# Altium footprint library Crystal.PcbLib: 185 footprints (part 5 of 12)
Each footprint in its own frame and in the unit in brackets; x right, y up, seen from the top. Pads: shape width x height; smd on the part's side, far side on the other; paste and mask are expansions set on the pad; w line width, h text height; cw(c..) or ccw(c..) is an arc to the next point about the centre after c.
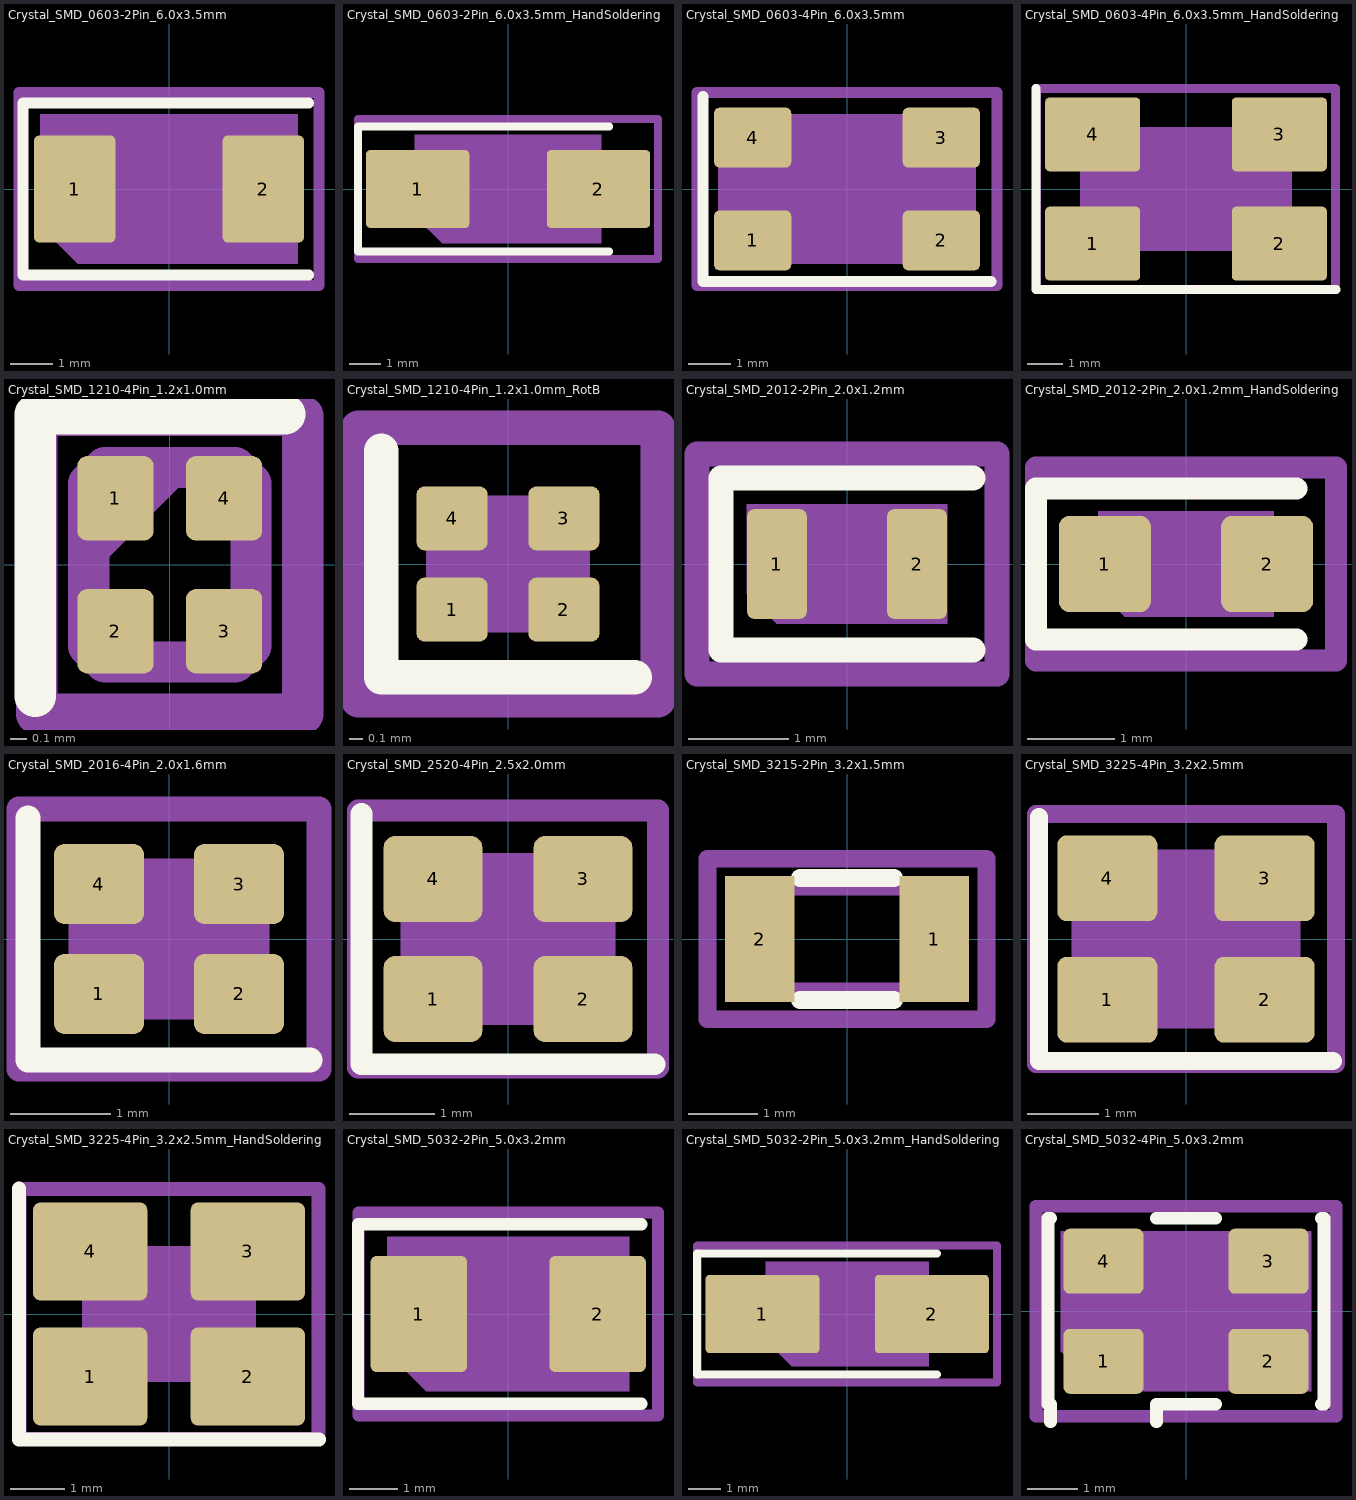
[diagram p4: the footprints below, top view; thin cyan lines are the x and y axes]

## Crystal_SMD_0603-2Pin_6.0x3.5mm [mm]
pads (2):
  rrect13% 1.9x2.5 smd: 1(-2.2,0) 2(2.2,0)
F.SilkS:
  lines w0.254: 3.26,-2.01 -3.41,-2.01 -3.41,2.01 3.26,2.01
Top Assembly:
  region: 3,-1.75 -2.125,-1.75 -3,-0.875 -3,1.75 3,1.75
  text "'.Designator'" at -4.047,-0.84 h1
Top Courtyard:
  lines w0.254: -3.5,-2.25 3.5,-2.25 3.5,2.25 -3.5,2.25 -3.5,-2.25
Top Designator:
  text ".Designator" at -7.768,-0.508 h1.52
Top Glue Points (Mech27):
  circle w0.254: c0,0 r0.4

## Crystal_SMD_0603-2Pin_6.0x3.5mm_HandSoldering [mm]
pads (2):
  rrect10% 3.325x2.5 smd: 1(-2.913,0) 2(2.913,0)
F.SilkS:
  lines w0.254: 3.26,-2.01 -4.835,-2.01 -4.835,2.01 3.26,2.01
Top Assembly:
  region: 3,-1.75 -2.125,-1.75 -3,-0.875 -3,1.75 3,1.75
  text "'.Designator'" at -4.047,-0.84 h1
Top Courtyard:
  lines w0.254: -4.83,-2.25 4.83,-2.25 4.83,2.25 -4.83,2.25 -4.83,-2.25
Top Designator:
  text ".Designator" at -7.62,-0.508 h1.52
Top Glue Points (Mech27):
  circle w0.254: c0,0 r0.4

## Crystal_SMD_0603-4Pin_6.0x3.5mm [mm]
pads (4):
  rrect18% 1.8x1.4 smd: 1(-2.2,-1.2) 2(2.2,-1.2) 3(2.2,1.2) 4(-2.2,1.2)
F.SilkS:
  lines w0.254: -3.36,2.16 -3.36,-2.16 3.36,-2.16
Top Assembly:
  region: 3,-1.75 -2.125,-1.75 -3,-0.875 -3,1.75 3,1.75
  text "'.Designator'" at -4.047,-0.84 h1
Top Courtyard:
  lines w0.254: -3.5,-2.25 3.5,-2.25 3.5,2.25 -3.5,2.25 -3.5,-2.25
Top Designator:
  text ".Designator" at -7.768,-0.508 h1.52
Top Glue Points (Mech27):
  circle w0.254: c0,0 r0.4

## Crystal_SMD_0603-4Pin_6.0x3.5mm_HandSoldering [mm]
pads (4):
  rrect12% 2.7x2.1 smd: 1(-2.65,-1.55) 2(2.65,-1.55) 3(2.65,1.55) 4(-2.65,1.55)
F.SilkS:
  lines w0.254: -4.26,2.86 -4.26,-2.86 4.26,-2.86
Top Assembly:
  region: 3,-1.75 -2.125,-1.75 -3,-0.875 -3,1.75 3,1.75
  text "'.Designator'" at -4.047,-0.84 h1
Top Courtyard:
  lines w0.254: -4.25,-2.85 4.25,-2.85 4.25,2.85 -4.25,2.85 -4.25,-2.85
Top Designator:
  text ".Designator" at -7.618,-0.508 h1.52
Top Glue Points (Mech27):
  circle w0.254: c0,0 r0.4

## Crystal_SMD_1210-4Pin_1.2x1.0mm [mm]
pads (4):
  rrect25% 0.47x0.52 smd: 1(-0.335,0.41) 2(-0.335,-0.41) 3(0.335,-0.41) 4(0.335,0.41)
F.SilkS:
  lines w0.254: -0.83,-0.81 -0.83,0.93 0.71,0.93
Top Assembly:
  lines w0.254: -0.5,0.1 0,0.6 ; -0.5,-0.5 -0.5,0.5 -0.4,0.6 0.4,0.6 0.5,0.5 0.5,-0.5 0.4,-0.6 -0.4,-0.6 -0.5,-0.5
  text "'.Designator'" at 0.336,-1.619 h0.4
Top Courtyard:
  lines w0.254: -0.82,-0.92 -0.82,0.92 0.82,0.92 0.82,-0.92 -0.82,-0.92
Top Designator:
  text ".Designator" at -7.623,-0.568 h1.52

## Crystal_SMD_1210-4Pin_1.2x1.0mm_RotB [mm]
pads (4):
  rrect25% 0.52x0.47 smd: 1(-0.41,-0.335) 2(0.41,-0.335) 3(0.41,0.335) 4(-0.41,0.335)
F.SilkS:
  lines w0.254: -0.93,0.83 -0.93,-0.83 0.93,-0.83
Top Assembly:
  region: 0.6,-0.5 -0.35,-0.5 -0.6,-0.25 -0.6,0.5 0.6,0.5
  text "'.Designator'" at -1.209,-0.247 h0.3
Top Courtyard:
  lines w0.254: -1.1,-1 1.1,-1 1.1,1 -1.1,1 -1.1,-1
Top Designator:
  text ".Designator" at -7.629,-0.508 h1.52

## Crystal_SMD_2012-2Pin_2.0x1.2mm [mm]
pads (2):
  rrect25% 0.6x1.1 smd: 1(-0.7,0) 2(0.7,0)
F.SilkS:
  lines w0.254: 1.26,-0.86 -1.26,-0.86 -1.26,0.86 1.26,0.86
Top Assembly:
  region: 1,-0.6 -0.7,-0.6 -1,-0.3 -1,0.6 1,0.6
  text "'.Designator'" at -2.028,-0.425 h0.5
Top Courtyard:
  lines w0.254: -1.5,-1.1 -1.5,1.1 1.5,1.1 1.5,-1.1 -1.5,-1.1
Top Designator:
  text ".Designator" at -3.514,-0.345 h1.52
Top Glue Points (Mech27):
  circle w0.254: c0,0 r0.2
3D body "Crystal_SMD_2012-2Pin_2.0x1.2mm.stp": height 0.55, standoff 0, extent -1,-0.6 1,0.6

## Crystal_SMD_2012-2Pin_2.0x1.2mm_HandSoldering [mm]
pads (2):
  rrect24% 1.05x1.1 smd: 1(-0.925,0) 2(0.925,0)
F.SilkS:
  lines w0.254: 1.26,-0.86 -1.71,-0.86 -1.71,0.86 1.26,0.86
Top Assembly:
  region: 1,-0.6 -0.7,-0.6 -1,-0.3 -1,0.6 1,0.6
  text "'.Designator'" at -2.028,-0.425 h0.5
Top Courtyard:
  lines w0.254: -1.71,-1.1 1.71,-1.1 1.71,1.1 -1.71,1.1 -1.71,-1.1
Top Designator:
  text ".Designator" at -7.698,-0.508 h1.52
Top Glue Points (Mech27):
  circle w0.254: c0,0 r0.2

## Crystal_SMD_2016-4Pin_2.0x1.6mm [mm]
pads (4):
  rrect25% 0.9x0.8 smd: 1(-0.7,-0.55) 2(0.7,-0.55) 3(0.7,0.55) 4(-0.7,0.55)
F.SilkS:
  lines w0.254: -1.41,1.21 -1.41,-1.21 1.41,-1.21
Top Assembly:
  region: 1,-0.8 -0.6,-0.8 -1,-0.4 -1,0.8 1,0.8
  text "'.Designator'" at -2.028,-0.425 h0.5
Top Courtyard:
  lines w0.254: -1.5,-1.3 1.5,-1.3 1.5,1.3 -1.5,1.3 -1.5,-1.3
Top Designator:
  text ".Designator" at -7.698,-0.508 h1.52

## Crystal_SMD_2520-4Pin_2.5x2.0mm [mm]
pads (4):
  rrect25% 1.15x1 smd: 1(-0.875,-0.7) 2(0.875,-0.7) 3(0.875,0.7) 4(-0.875,0.7)
F.SilkS:
  lines w0.254: -1.71,1.46 -1.71,-1.46 1.71,-1.46
Top Assembly:
  region: 1.25,-1 -0.75,-1 -1.25,-0.5 -1.25,1 1.25,1
  text "'.Designator'" at -2.506,-0.518 h0.62
Top Courtyard:
  lines w0.254: -1.75,-1.5 1.75,-1.5 1.75,1.5 -1.75,1.5 -1.75,-1.5
Top Designator:
  text ".Designator" at -7.708,-0.508 h1.52

## Crystal_SMD_3215-2Pin_3.2x1.5mm [mm]
pads (2):
  rect 1x1.8 smd: 1(1.25,0) 2(-1.25,0)
F.SilkS:
  lines w0.254: -0.675,-0.875 0.675,-0.875 ; -0.675,0.875 0.675,0.875
Top Assembly:
  lines w0.254: -1.6,-0.75 -1.6,0.75 1.6,0.75 1.6,-0.75 -1.6,-0.75
  text "'.Designator'" at -4.047,1.16 h1
Top Courtyard:
  lines w0.254: -2,-1.15 -2,1.15 2,1.15 2,-1.15 -2,-1.15
Top Designator:
  text ".Designator" at -7.768,0.032 h1.52
3D body "Crystal_SMD_3215-2Pin_3.2x1.5mm.step": height 0.93, standoff 0, extent -1.6,-0.75 1.6,0.75

## Crystal_SMD_3225-4Pin_3.2x2.5mm [mm]
pads (4):
  rrect21% 1.4x1.2 smd: 1(-1.1,-0.85) 2(1.1,-0.85) 3(1.1,0.85) 4(-1.1,0.85)
F.SilkS:
  lines w0.254: -2.06,1.71 -2.06,-1.71 2.06,-1.71
Top Assembly:
  region: 1.6,-1.25 -0.975,-1.25 -1.6,-0.625 -1.6,1.25 1.6,1.25
  text "'.Designator'" at -3.237,-0.672 h0.8
Top Courtyard:
  lines w0.254: -2.1,-1.75 2.1,-1.75 2.1,1.75 -2.1,1.75 -2.1,-1.75
Top Designator:
  text ".Designator" at -7.738,-0.508 h1.52
3D body "Crystal_SMD_3225-4Pin_3.2x2.5mm.step": height 0.64, standoff 0, extent -1.599,-1.251 1.601,1.25

## Crystal_SMD_3225-4Pin_3.2x2.5mm_HandSoldering [mm]
pads (4):
  rrect14% 2.1x1.8 smd: 1(-1.45,-1.15) 2(1.45,-1.15) 3(1.45,1.15) 4(-1.45,1.15)
F.SilkS:
  lines w0.254: -2.76,2.31 -2.76,-2.31 2.76,-2.31
Top Assembly:
  region: 1.6,-1.25 -0.975,-1.25 -1.6,-0.625 -1.6,1.25 1.6,1.25
  text "'.Designator'" at -3.237,-0.672 h0.8
Top Courtyard:
  lines w0.254: -2.75,-2.3 2.75,-2.3 2.75,2.3 -2.75,2.3 -2.75,-2.3
Top Designator:
  text ".Designator" at -7.738,-0.508 h1.52

## Crystal_SMD_5032-2Pin_5.0x3.2mm [mm]
pads (2):
  rrect12% 2x2.4 smd: 1(-1.85,0) 2(1.85,0)
F.SilkS:
  lines w0.254: 2.76,-1.86 -3.11,-1.86 -3.11,1.86 2.76,1.86
Top Assembly:
  region: 2.5,-1.6 -1.7,-1.6 -2.5,-0.8 -2.5,1.6 2.5,1.6
  text "'.Designator'" at -4.047,-0.84 h1
Top Courtyard:
  lines w0.254: -3.1,-2.1 3.1,-2.1 3.1,2.1 -3.1,2.1 -3.1,-2.1
Top Designator:
  text ".Designator" at -7.768,-0.508 h1.52
Top Glue Points (Mech27):
  circle w0.254: c0,0 r0.4

## Crystal_SMD_5032-2Pin_5.0x3.2mm_HandSoldering [mm]
pads (2):
  rrect10% 3.5x2.4 smd: 1(-2.6,0) 2(2.6,0)
F.SilkS:
  lines w0.254: 2.76,-1.86 -4.61,-1.86 -4.61,1.86 2.76,1.86
Top Assembly:
  region: 2.5,-1.6 -1.7,-1.6 -2.5,-0.8 -2.5,1.6 2.5,1.6
  text "'.Designator'" at -4.047,-0.84 h1
Top Courtyard:
  lines w0.254: -4.6,-2.1 4.6,-2.1 4.6,2.1 -4.6,2.1 -4.6,-2.1
Top Designator:
  text ".Designator" at -7.623,-0.508 h1.52
Top Glue Points (Mech27):
  circle w0.254: c0,0 r0.4

## Crystal_SMD_5032-4Pin_5.0x3.2mm [mm]
pads (4):
  rrect19% 1.6x1.3 smd: 1(-1.65,-1) 2(1.65,-1) 3(1.65,1) 4(-1.65,1)
F.SilkS:
  lines w0.254: -2.71,-2.21 -2.71,-1.86 -2.76,-1.86 -2.76,1.86 -2.71,1.86 ; -0.59,-2.21 -0.59,-1.86 0.59,-1.86 ; -0.59,1.86 0.59,1.86 ; 2.71,-1.86 2.76,-1.86 2.76,1.86 2.71,1.86
Top Assembly:
  region: 2.5,-1.6 -1.7,-1.6 -2.5,-0.8 -2.5,1.6 2.5,1.6
  text "'.Designator'" at -4.047,-0.84 h1
Top Courtyard:
  lines w0.254: -3,-2.1 3,-2.1 3,2.1 -3,2.1 -3,-2.1
Top Designator:
  text ".Designator" at -7.768,-0.563 h1.52